# Altium schematic symbol library Conn_10pin.SchLib: 1 symbol
Pins are listed as number, name and electrical type; pins without a type are passive.

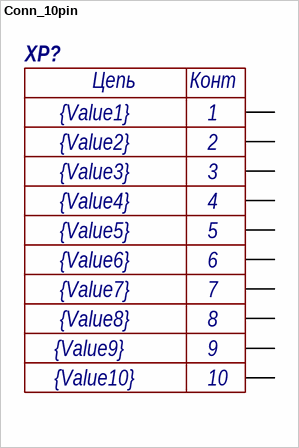
[diagram p0: symbol Conn_10pin]

## Conn_10pin
designator XP?  Value1: {Value1}  Value2: {Value2}  Value3: {Value3}  Value4: {Value4}  Value5: {Value5}  Value6: {Value6}  Value7: {Value7}  Value8: {Value8}  Value9: {Value9}  Value10: {Value10}
pins: 1, 2, 3, 4, 5, 6, 7, 8, 9, 10
text: Цепь; Конт